# Altium schematic symbol library JST-XH SMD 2.5mm Straight  6-pos.Schlib: 1 symbol
Pins are listed as number, name and electrical type; pins without a type are passive.

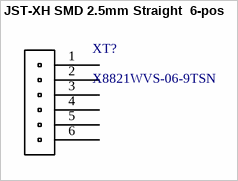
[diagram p0: symbol JST-XH SMD 2.5mm Straight  6-pos]

## JST-XH SMD 2.5mm Straight  6-pos
designator XT?, comment X8821WVS-06-9TSN
XH Header Male Pin Straight 0.098"(2.50mm) 6 SMD,P=2.5mm Wire To Board / Wire To Wire Connector RoHS; ComponentLink1Description: LCSC - XKB Connectivity X8821WVS-06-9TSN; ComponentLink1URL: https://lcsc.com/product-detail/Wire-To-Board-Wire-To-Wire-Connector_XKB-Connectivity-X8821WVS-06-9TSN_C397441.html; LCSC Part #: C397441; JLCPCB Part Type: Extended
footprint JST XH SMD 2.5mm straight 6-pos
pins: 1, 2, 3, 4, 5, 6